# EAGLE library part SARA-G450 (library UBLOX_SARA-N2)
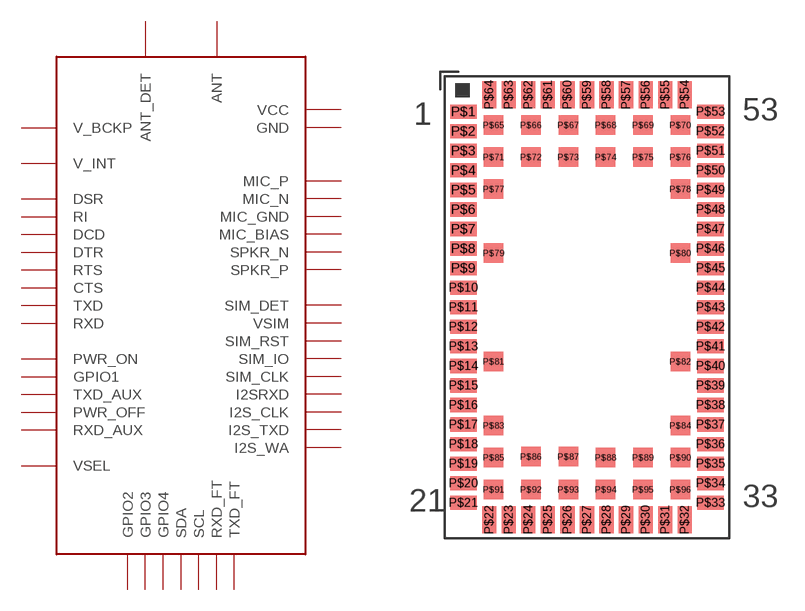
[diagram p1: symbol with the pads of SARA-N2; footprint SARA-N2]

Designator prefix -

## SARA-G450  [SARA-N2]
P$1  GND
P$2  V_BCKP
P$3  GND
P$4  V_INT
P$5  GND
P$6  DSR
P$7  RI
P$8  DCD
P$9  DTR
P$10  RTS
P$11  CTS
P$12  TXD
P$13  RXD
P$14  GND
P$15  PWR_ON
P$16  GPIO1
P$17  TXD_AUX
P$18  PWR_OFF
P$19  RXD_AUX
P$20  GND
P$21  VSEL
P$22  GND
P$23  GPIO2
P$24  GPIO3
P$25  GPIO4
P$26  SDA
P$27  SCL
P$28  RXD_FT
P$29  TXD_FT
P$30  GND
P$32  GND
P$34  I2S_WA
P$35  I2S_TXD
P$36  I2S_CLK
P$37  I2SRXD
P$38  SIM_CLK
P$39  SIM_IO
P$40  SIM_RST
P$41  VSIM
P$42  SIM_DET
P$43  GND
P$44  SPKR_P
P$45  SPKR_N
P$46  MIC_BIAS
P$47  MIC_GND
P$48  MIC_N
P$49  MIC_P
P$50  GND
P$51  VCC
P$52  VCC
P$53  VCC
P$54  GND
P$55  GND
P$56  ANT
P$57  GND
P$58  GND
P$59  GND
P$60  GND
P$61  GND
P$62  ANT_DET
P$63  GND
P$64  GND
P$65  GND
P$66  GND
P$67  GND
P$68  GND
P$69  GND
P$70  GND
P$71  GND
P$72  GND
P$73  GND
P$74  GND
P$75  GND
P$76  GND
P$77  GND
P$78  GND
P$79  GND
P$80  GND
P$81  GND
P$82  GND
P$83  GND
P$84  GND
P$85  GND
P$86  GND
P$87  GND
P$88  GND
P$89  GND
P$90  GND
P$91  GND
P$92  GND
P$93  GND
P$94  GND
P$95  GND
P$96  GND

## Footprint SARA-N2 (pad centres in mm)
smd 1.5 x 0.8: P$1 -6.95,11; P$2 -6.95,9.9; P$3 -6.95,8.8; P$4 -6.95,7.7; P$5 -6.95,6.6; P$6 -6.95,5.5; P$7 -6.95,4.4; P$8 -6.95,3.3; P$9 -6.95,2.2; P$10 -6.95,1.1; P$11 -6.95,0; P$12 -6.95,-1.1; P$13 -6.95,-2.2; P$14 -6.95,-3.3; P$15 -6.95,-4.4; P$16 -6.95,-5.5; P$17 -6.95,-6.6; P$18 -6.95,-7.7; P$19 -6.95,-8.8; P$20 -6.95,-9.9; P$21 -6.95,-11; P$33 6.95,-11; P$34 6.95,-9.9; P$35 6.95,-8.8; P$36 6.95,-7.7; P$37 6.95,-6.6; P$38 6.95,-5.5; P$39 6.95,-4.4; P$40 6.95,-3.3; P$41 6.95,-2.2; P$42 6.95,-1.1; P$43 6.95,0; P$44 6.95,1.1; P$45 6.95,2.2; P$46 6.95,3.3; P$47 6.95,4.4; P$48 6.95,5.5; P$49 6.95,6.6; P$50 6.95,7.7; P$51 6.95,8.8; P$52 6.95,9.9; P$53 6.95,11
smd 0.8 x 1.5: P$22 -5.5,-11.95; P$23 -4.4,-11.95; P$24 -3.3,-11.95; P$25 -2.2,-11.95; P$26 -1.1,-11.95; P$27 0,-11.95; P$28 1.1,-11.95; P$29 2.2,-11.95; P$30 3.3,-11.95; P$31 4.4,-11.95; P$32 5.5,-11.95; P$54 5.5,11.95; P$55 4.4,11.95; P$56 3.3,11.95; P$57 2.2,11.95; P$58 1.1,11.95; P$59 0,11.95; P$60 -1.1,11.95; P$61 -2.2,11.95; P$62 -3.3,11.95; P$63 -4.4,11.95; P$64 -5.5,11.95
smd 1.1 x 1.1: P$65 -5.25,10.25; P$66 -3.15,10.25; P$67 -1.05,10.25; P$68 1.05,10.25; P$69 3.15,10.25; P$70 5.25,10.25; P$71 -5.25,8.45; P$72 -3.15,8.45; P$73 -1.05,8.45; P$74 1.05,8.45; P$75 3.15,8.45; P$76 5.25,8.45; P$77 -5.25,6.65; P$78 5.25,6.65; P$79 -5.25,3.05; P$80 5.25,3.05; P$81 -5.25,-3.05; P$82 5.25,-3.05; P$83 -5.25,-6.65; P$84 5.25,-6.65; P$85 -5.25,-8.45; P$86 -3.15,-8.4; P$87 -1.05,-8.4; P$88 1.05,-8.45; P$89 3.15,-8.45; P$90 5.25,-8.45; P$91 -5.25,-10.25; P$92 -3.15,-10.25; P$93 -1.05,-10.25; P$94 1.05,-10.25; P$95 3.15,-10.25; P$96 5.25,-10.25